# Altium footprint library SOT23-5P65_212X110L33X22N.PCBLIB: 1 footprints
Each footprint in its own frame and in the unit in brackets; x right, y up, seen from the top. Pads: shape width x height; smd on the part's side, far side on the other; paste and mask are expansions set on the pad; w line width, h text height; cw(c..) or ccw(c..) is an arc to the next point about the centre after c.
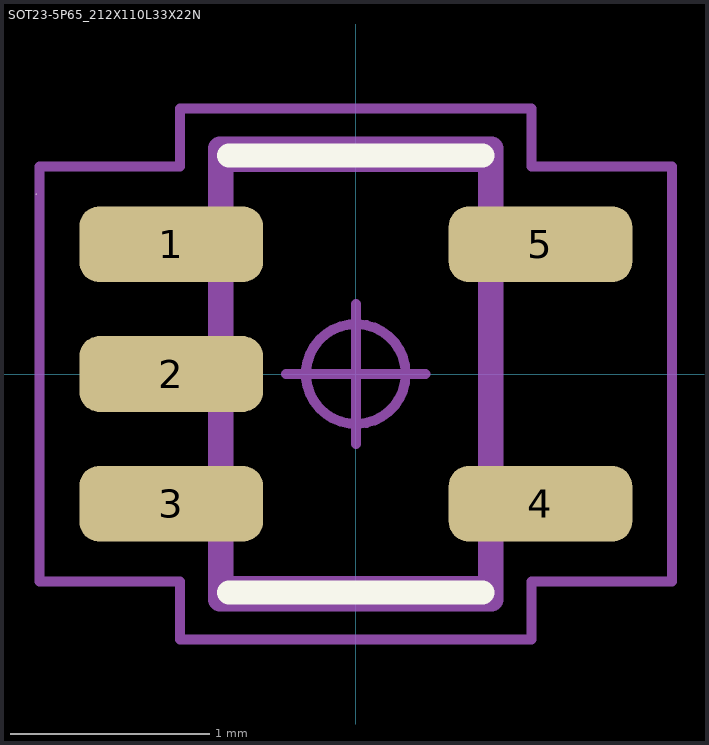
[diagram p0: the footprint, top view; thin cyan lines are the x and y axes]

## SOT23-5P65_212X110L33X22N [mm] "5-TSSOP, SC-70-5, SOT-353"
height 1.1
pads (5):
  rrect53% 0.92x0.38 smd: 1(-0.925,0.65) 2(-0.925,0) 3(-0.925,-0.65) 4(0.925,-0.65) 5(0.925,0.65)
Top Overlay:
  lines w0.12: -0.635,-1.095 0.635,-1.095 ; -0.635,1.095 0.635,1.095
  text "o" at -1.603,0.897 h0.01
Mechanical 13:
  lines w0.025: -1.062,-0.763 -0.727,-0.763 -0.727,-0.537 -1.062,-0.537 -1.062,-0.763 ; -1.062,-0.112 -0.727,-0.112 -0.727,0.112 -1.062,0.112 -1.062,-0.112 ; -1.062,0.537 -0.727,0.537 -0.727,0.763 -1.062,0.763 -1.062,0.537 ; -0.625,-1.025 0.625,-1.025 0.625,1.025 -0.625,1.025 -0.625,-1.025 ; 0.727,-0.763 0.727,-0.537 1.062,-0.537 1.062,-0.763 0.727,-0.763 ; 0.727,0.537 0.727,0.763 1.062,0.763 1.062,0.537 0.727,0.537
  lines w0.12: -0.68,-1.13 0.68,-1.13 0.68,1.13 -0.68,1.13 -0.68,-1.13
Mechanical 15:
  circle w0.05: c0,0 r0.25
  lines w0.05: -0.35,0 0.35,0 ; 0,-0.35 0,0.35 ; -1.585,-1.04 -1.585,1.04 -0.88,1.04 -0.88,1.33 0.88,1.33 0.88,1.04 1.585,1.04 1.585,-1.04 0.88,-1.04 0.88,-1.33 -0.88,-1.33 -0.88,-1.04 -1.585,-1.04
3D body "SOT23-5P65_212X110L33X22.STEP": height 1.1, standoff 0, extent -1.062,-1.025 1.062,1.025